# EAGLE library part CLN6A (library led)
Cree® CLN6A-WKW/MKW LED Source: Data sheet <http://www.cree.com/products/pdf/LEDlamps/CLN6A%28979%29.pdf>
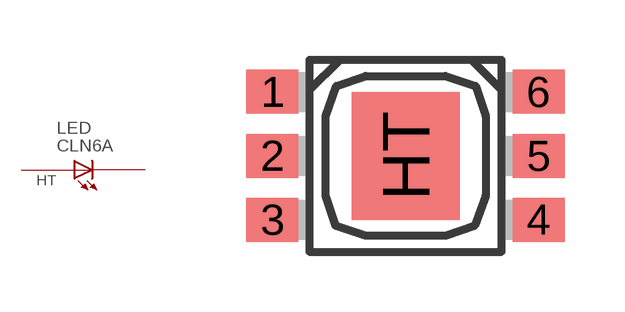
[diagram p29: symbol with the pads of CLN6A; footprint CLN6A]

Designator prefix LED

## CLN6A-MKW, CLN6A-WKW  [CLN6A]
1  C  pas
2  C  pas
3  C  pas
4  A  pas
5  A  pas
6  A  pas
HT  HT  pas

## Footprint CLN6A (pad centres in mm)
Cree® CLN6A-WKW/MKW Source: Data sheet <http://www.cree.com/products/pdf/LEDlamps/CLN6A%28979%29.pdf>
smd 1.3 x 1.1: 1 -3.325,1.6; 2 -3.325,0; 3 -3.325,-1.6; 4 3.325,-1.6; 5 3.325,0; 6 3.325,1.6
smd 2.7 x 3.2: HT 0,0